# Altium schematic symbol library EAST1616RGBB4.SchLib: 1 symbol
Pins are listed as number, name and electrical type; pins without a type are passive.

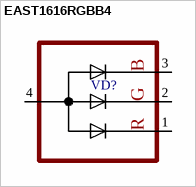
[diagram p0: symbol EAST1616RGBB4]

## EAST1616RGBB4
designator VD?
pins: 1, 2, 3, 4
text: B; G; R